# EAGLE library part DIP-USB-A-TYPE-FMAL(4+2P-2.0-90D) (library OPL_Connector)
320010007
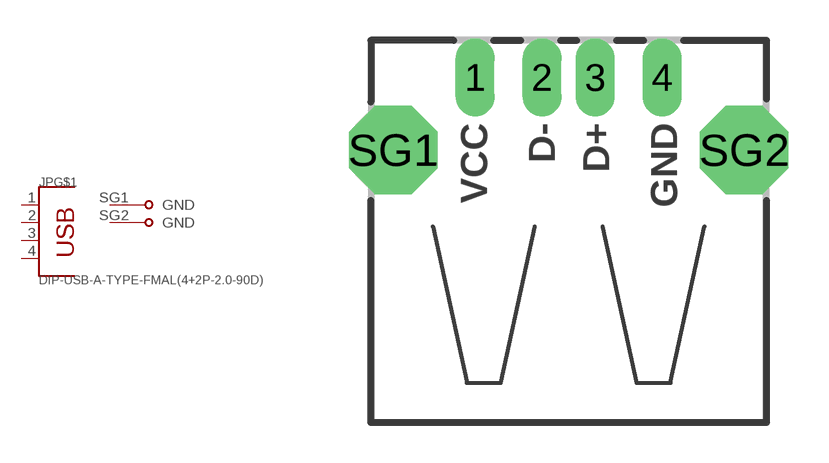
[diagram p13: symbol with the pads of USB4+2P-2.0-90D; footprint USB4+2P-2.0-90D]

Designator prefix JP; gates G$1=ST-USB-003A G$2=SGND G$3=SGND

## DIP-USB-A-TYPE-FMAL(4+2P-2.0-90D)  [USB4+2P-2.0-90D]
1  G$1:1
2  G$1:2
3  G$1:3
4  G$1:4
SG1  G$2:GND  pas
SG2  G$3:GND  pas

## Footprint USB4+2P-2.0-90D (pad centres in mm)
USB connector
drill 0.95 long: 1 -3.5,2.71; 2 -1,2.71; 3 1,2.71; 4 3.5,2.71
drill 2.3 octagon: SG1 -6.57,0; SG2 6.57,0